# Altium schematic symbol library LAN8720A-CP-TR-ABC.SchLib: 1 symbol
Pins are listed as number, name and electrical type; pins without a type are passive.

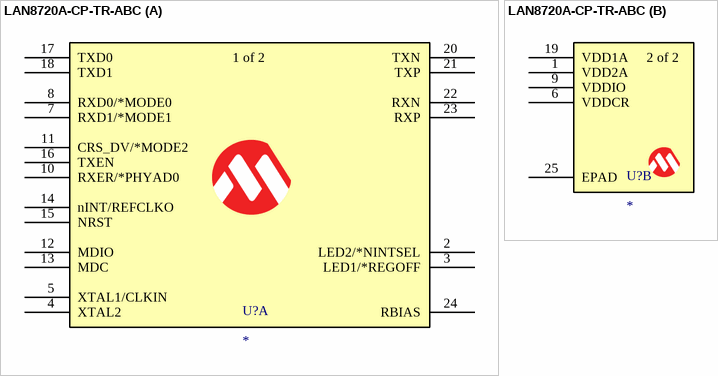
[diagram p0: symbol LAN8720A-CP-TR-ABC]

## LAN8720A-CP-TR-ABC
designator U?
No Description Available; Mfr_Name: Microchip; Digi-Key_Part_Number_3: LAN8720A-CP-TR-ABCTR-ND; Digi-Key_Part_Number_2: LAN8720A-CP-TR-ABCDKR-ND; Digi-Key_Part_Number_1: LAN8720A-CP-TR-ABCCT-ND; RefDes: RefDes; Type: Type
footprint QFN24-6X6_MC_MCH
part A pins: 2 LED2/*NINTSEL, 3 LED1/*REGOFF, 4 XTAL2, 5 XTAL1/CLKIN, 7 RXD1/*MODE1, 8 RXD0/*MODE0, 10 RXER/*PHYAD0, 11 CRS_DV/*MODE2, 12 MDIO, 13 MDC, 14 nINT/REFCLKO, 15 NRST, 16 TXEN, 17 TXD0, 18 TXD1, 20 TXN, 21 TXP, 22 RXN, 23 RXP, 24 RBIAS
part B pins: 1 VDD2A (power), 6 VDDCR (power), 9 VDDIO (power), 19 VDD1A (power), 25 EPAD
part A text: 1 of 2
part B text: 2 of 2